# EAGLE library part STM32H750 (library Bits_library_eagle 9x)
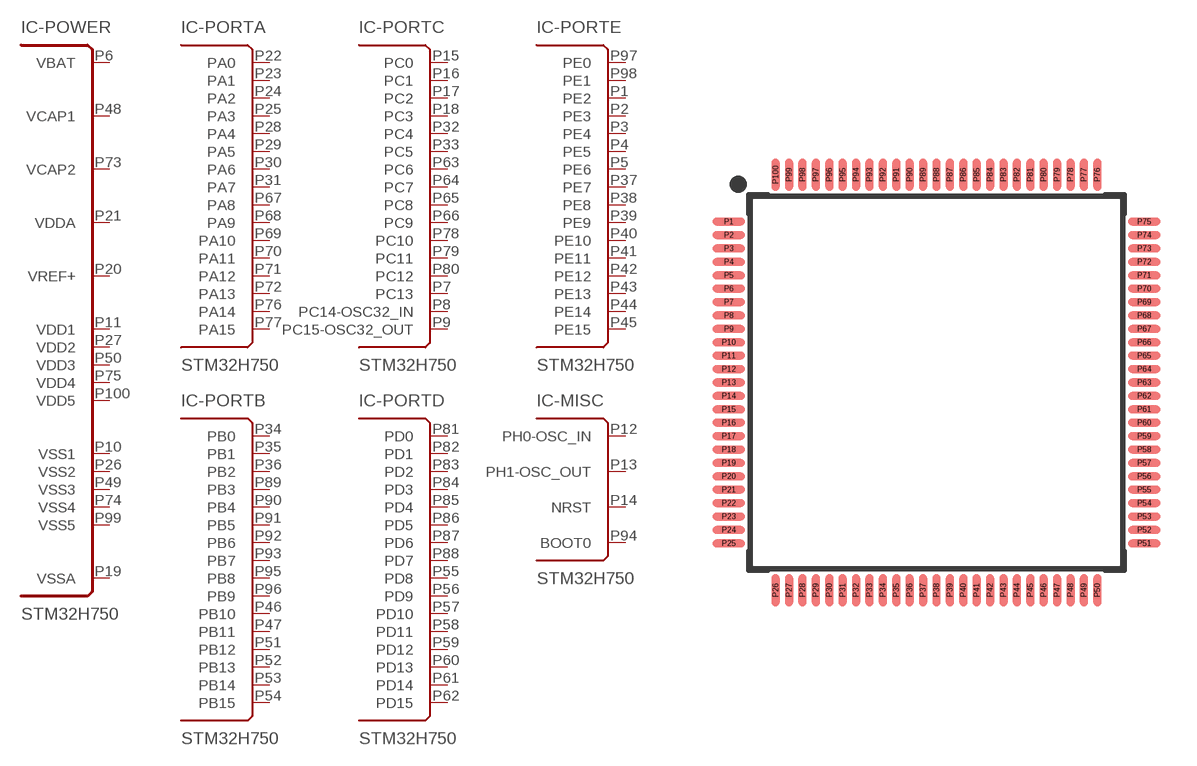
[diagram p57: symbol with the pads of LQFP100; footprint LQFP100]

Designator prefix IC; gates -POWER=STM32-PWR-100C -PORTA=STM32-PORTA-100 -PORTB=STM32-PORTB-100 -PORTC=STM32-PORTC-100 -PORTD=STM32-PORTD-100 -PORTE=STM32-PORTE-100 -MISC=STM32-MISC-100

## STM32H750  [LQFP100]
P1  -PORTE:PE2
P2  -PORTE:PE3
P3  -PORTE:PE4
P4  -PORTE:PE5
P5  -PORTE:PE6
P6  -POWER:VBAT  pwr
P7  -PORTC:PC13
P8  -PORTC:PC14-OSC32_IN
P9  -PORTC:PC15-OSC32_OUT
P10  -POWER:VSS1  pwr
P11  -POWER:VDD1  pwr
P12  -MISC:PH0-OSC_IN
P13  -MISC:PH1-OSC_OUT
P14  -MISC:NRST
P15  -PORTC:PC0
P16  -PORTC:PC1
P17  -PORTC:PC2
P18  -PORTC:PC3
P19  -POWER:VSSA  pwr
P20  -POWER:VREF+  pwr
P21  -POWER:VDDA  pwr
P22  -PORTA:PA0
P23  -PORTA:PA1
P24  -PORTA:PA2
P25  -PORTA:PA3
P26  -POWER:VSS2  pwr
P27  -POWER:VDD2  pwr
P28  -PORTA:PA4
P29  -PORTA:PA5
P30  -PORTA:PA6
P31  -PORTA:PA7
P32  -PORTC:PC4
P33  -PORTC:PC5
P34  -PORTB:PB0
P35  -PORTB:PB1
P36  -PORTB:PB2
P37  -PORTE:PE7
P38  -PORTE:PE8
P39  -PORTE:PE9
P40  -PORTE:PE10
P41  -PORTE:PE11
P42  -PORTE:PE12
P43  -PORTE:PE13
P44  -PORTE:PE14
P45  -PORTE:PE15
P46  -PORTB:PB10
P47  -PORTB:PB11
P48  -POWER:VCAP1  pwr
P49  -POWER:VSS3  pwr
P50  -POWER:VDD3  pwr
P51  -PORTB:PB12
P52  -PORTB:PB13
P53  -PORTB:PB14
P54  -PORTB:PB15
P55  -PORTD:PD8
P56  -PORTD:PD9
P57  -PORTD:PD10
P58  -PORTD:PD11
P59  -PORTD:PD12
P60  -PORTD:PD13
P61  -PORTD:PD14
P62  -PORTD:PD15
P63  -PORTC:PC6
P64  -PORTC:PC7
P65  -PORTC:PC8
P66  -PORTC:PC9
P67  -PORTA:PA8
P68  -PORTA:PA9
P69  -PORTA:PA10
P70  -PORTA:PA11
P71  -PORTA:PA12
P72  -PORTA:PA13
P73  -POWER:VCAP2  pwr
P74  -POWER:VSS4  pwr
P75  -POWER:VDD4  pwr
P76  -PORTA:PA14
P77  -PORTA:PA15
P78  -PORTC:PC10
P79  -PORTC:PC11
P80  -PORTC:PC12
P81  -PORTD:PD0
P82  -PORTD:PD1
P83  -PORTD:PD2
P84  -PORTD:PD3
P85  -PORTD:PD4
P86  -PORTD:PD5
P87  -PORTD:PD6
P88  -PORTD:PD7
P89  -PORTB:PB3
P90  -PORTB:PB4
P91  -PORTB:PB5
P92  -PORTB:PB6
P93  -PORTB:PB7
P94  -MISC:BOOT0
P95  -PORTB:PB8
P96  -PORTB:PB9
P97  -PORTE:PE0
P98  -PORTE:PE1
P99  -POWER:VSS5  pwr
P100  -POWER:VDD5  pwr

## Footprint LQFP100 (pad centres in mm)
smd 1.2 x 0.3: P1 -7.75,6; P2 -7.75,5.5; P3 -7.75,5; P4 -7.75,4.5; P5 -7.75,4; P6 -7.75,3.5; P7 -7.75,3; P8 -7.75,2.5; P9 -7.75,2; P10 -7.75,1.5; P11 -7.75,1; P12 -7.75,0.5; P13 -7.75,0; P14 -7.75,-0.5; P15 -7.75,-1; P16 -7.75,-1.5; P17 -7.75,-2; P18 -7.75,-2.5; P19 -7.75,-3; P20 -7.75,-3.5; P21 -7.75,-4; P22 -7.75,-4.5; P23 -7.75,-5; P24 -7.75,-5.5; P25 -7.75,-6; P51 7.75,-6; P52 7.75,-5.5; P53 7.75,-5; P54 7.75,-4.5; P55 7.75,-4; P56 7.75,-3.5; P57 7.75,-3; P58 7.75,-2.5; P59 7.75,-2; P60 7.75,-1.5; P61 7.75,-1; P62 7.75,-0.5; P63 7.75,0; P64 7.75,0.5; P65 7.75,1; P66 7.75,1.5; P67 7.75,2; P68 7.75,2.5; P69 7.75,3; P70 7.75,3.5; P71 7.75,4; P72 7.75,4.5; P73 7.75,5; P74 7.75,5.5; P75 7.75,6
smd 0.3 x 1.2: P26 -6,-7.75; P27 -5.5,-7.75; P28 -5,-7.75; P29 -4.5,-7.75; P30 -4,-7.75; P31 -3.5,-7.75; P32 -3,-7.75; P33 -2.5,-7.75; P34 -2,-7.75; P35 -1.5,-7.75; P36 -1,-7.75; P37 -0.5,-7.75; P38 0,-7.75; P39 0.5,-7.75; P40 1,-7.75; P41 1.5,-7.75; P42 2,-7.75; P43 2.5,-7.75; P44 3,-7.75; P45 3.5,-7.75; P46 4,-7.75; P47 4.5,-7.75; P48 5,-7.75; P49 5.5,-7.75; P50 6,-7.75; P76 6,7.75; P77 5.5,7.75; P78 5,7.75; P79 4.5,7.75; P80 4,7.75; P81 3.5,7.75; P82 3,7.75; P83 2.5,7.75; P84 2,7.75; P85 1.5,7.75; P86 1,7.75; P87 0.5,7.75; P88 0,7.75; P89 -0.5,7.75; P90 -1,7.75; P91 -1.5,7.75; P92 -2,7.75; P93 -2.5,7.75; P94 -3,7.75; P95 -3.5,7.75; P96 -4,7.75; P97 -4.5,7.75; P98 -5,7.75; P99 -5.5,7.75; P100 -6,7.75